# Altium schematic symbol library TCA9554A.SchLib: 1 symbol
Pins are listed as number, name and electrical type; pins without a type are passive.

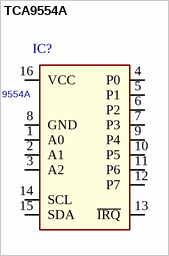
[diagram p0: symbol TCA9554A]

## TCA9554A
designator IC?
ID: TCA9554A; PDF: http://www.ti.com/lit/ds/symlink/tca9554a.pdf; BUY_LINK: http://www.digikey.com/product-detail/en/TCA9554APWR/296-28120-1-ND/2513731; PRICE: 2.58000
footprint TSSOP16
pins: 1 A0, 2 A1, 3 A2, 4 P0, 5 P1, 6 P2, 7 P3, 8 GND, 9 P4, 10 P5, 11 P6, 12 P7, 13 ~{IRQ}, 14 SCL, 15 SDA, 16 VCC